# Altium footprint library TRA-IRFD110.PcbLib: 1 footprints
Each footprint in its own frame and in the unit in brackets; x right, y up, seen from the top. Pads: shape width x height; smd on the part's side, far side on the other; paste and mask are expansions set on the pad; w line width, h text height; cw(c..) or ccw(c..) is an arc to the next point about the centre after c.
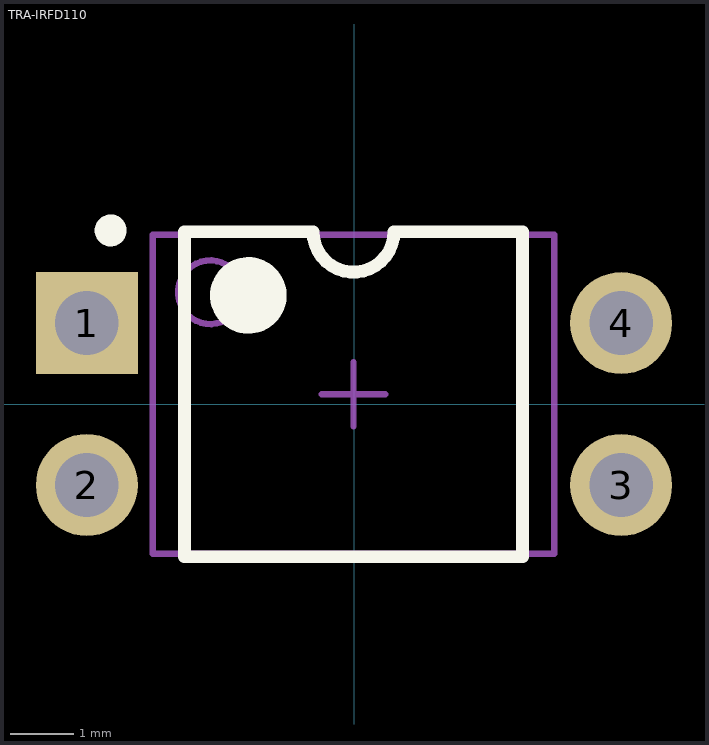
[diagram p0: the footprint, top view; thin cyan lines are the x and y axes]

## TRA-IRFD110 [mm] "TRA-IRFD110"
pads (4):
  rect 1.6x1.6 hole 1: 1(-4.191,1.27)
  round 1.6 hole 1: 2(-4.191,-1.27) 3(4.191,-1.27) 4(4.191,1.27)
Top Overlay:
  circle w0.25: c-3.817,2.724 r0.125
  circle w0.6: c-1.657,1.704 r0.3
  lines w0.2: -2.657,-2.396 -2.657,2.704 -0.642,2.704 ccw(c-0.007,2.704) 0.628,2.704 2.643,2.704 2.643,-2.396 -2.657,-2.396
Mechanical 13:
  circle w0.1: c-2.257,1.754 r0.5
  lines w0.1: -3.157,-2.346 -3.157,2.654 3.143,2.654 3.143,-2.346 -3.157,-2.346
Mechanical 15:
  lines w0.1: -0.507,0.154 0.493,0.154 ; -0.007,-0.346 -0.007,0.654
3D body "TRA-IRFD110.stp": height 4.62, standoff -2.83, extent -4.3,-2.5 4.3,2.5